# Altium footprint library PcbLib_2.PcbLib: 9 footprints
Each footprint in its own frame and in the unit in brackets; x right, y up, seen from the top. Pads: shape width x height; smd on the part's side, far side on the other; paste and mask are expansions set on the pad; w line width, h text height; cw(c..) or ccw(c..) is an arc to the next point about the centre after c.
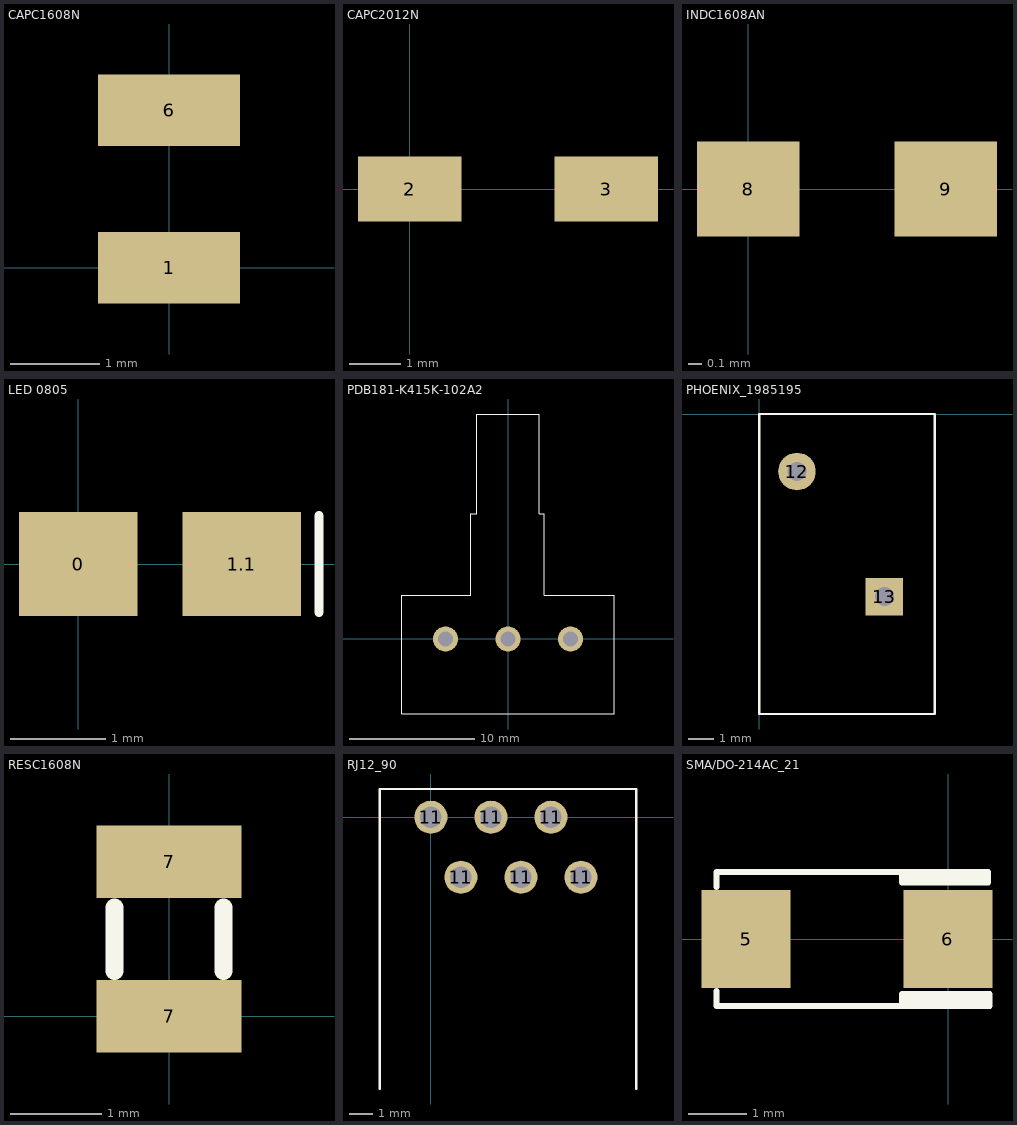
[diagram p0: the footprints below, top view; thin cyan lines are the x and y axes]

## CAPC1608N [mm] "100nF"
pads (2):
  rect 1.6x0.8 smd: 1(0,0) 6(0,1.77)

## CAPC2012N [mm]
pads (2):
  rect 2x1.25 smd: 2(0,0) 3(3.8,0)

## INDC1608AN [mm]
pads (2):
  rect 0.75x0.7 smd: 8(0,0) 9(1.45,0)

## LED 0805 [mm]
pads (2):
  rect 1.25x1.1 smd: 0(0,0) 1.1(1.725,0)
Top Overlay:
  lines w0.1: 2.54,-0.508 2.54,0.508

## PDB181-K415K-102A2 [mm]
height 17
pads (3):
  round 2 hole 1.2: ""(-5,0) ""(0,0) ""(5,0)
Top Overlay:
  lines w0.1: -2.997,3.503 -3,3.5 ; -3,3.5 -3,10 -2.5,10 -2.5,18 2.5,18 2.5,10 2.896,10 2.896,3.5 8.5,3.5 8.5,-6 -8.5,-6 -8.5,3.5 -3,3.5

## PHOENIX_1985195 [mm]
pads (2):
  round 1.5 / inner round 1.5 / far side round 1 hole 0.762: 12(1.5,-2.3)
  rect 1.5x1.5 / inner round 1.524 / far side round 1 hole 0.762: 13(5,-7.3)
Top Overlay:
  lines w0.1: 0,-12 7,-12 7,0 0,0 0,-12

## RESC1608N [mm]
pads (2):
  rect 1.6x0.8 smd: 7(0,0) 7(0,1.705)
Top Overlay:
  lines w0.2: -0.6,0.5 -0.6,1.2 ; 0.6,0.5 0.6,1.2

## RJ12_90 [mm]
pads (6):
  round 1.4 hole 0.9: 11(0,0) 11(1.27,-2.54) 11(2.54,0) 11(3.81,-2.54) 11(5.08,0) 11(6.35,-2.54)
Top Overlay:
  lines w0.1: -2.159,-11.5 -2.159,1.194 8.687,1.194 8.687,-11.5

## SMA/DO-214AC_21 [mm]
pads (2):
  rect 1.52x1.68 smd: 5(-3.454,0) 6(-0.004,0)
Top Overlay:
  rectangle: -0.787,-1.143 0.711,-0.94
  rectangle: -0.787,0.965 0.686,1.143
  lines w0.1: -3.962,-0.889 -3.962,-1.143 0.711,-1.143 0.711,-0.94 -0.787,-0.94 -0.787,-1.143 ; -3.962,0.889 -3.962,1.143 0.686,1.143 0.686,0.965 -0.787,0.965 -0.787,1.143